# EAGLE library part CA56-11EWA (library kirks-parts)
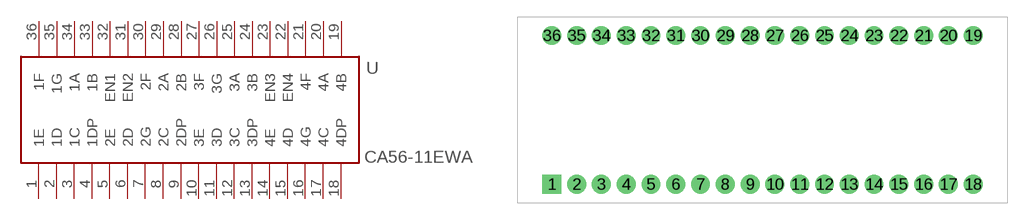
[diagram p0: symbol with the pads of DIP-36-LED-7SEG; footprint DIP-36-LED-7SEG]

Designator prefix -

## CA56-11EWACA56-11EWA  [DIP-36-LED-7SEG]
1  1E
2  1D
3  1C
4  1DP
5  2E
6  2D
7  2G
8  2C
9  2DP
10  3E
11  3D
12  3C
13  3DP
14  4E
15  4D
16  4G
17  4C
18  4DP
19  4B
20  4A
21  4F
22  EN4
23  EN3
24  3B
25  3A
26  3G
27  3F
28  2B
29  2A
30  2F
31  EN2
32  EN1
33  1B
34  1A
35  1G
36  1F

## Footprint DIP-36-LED-7SEG (pad centres in mm)
drill 0.9 pad 1.93 square: 1 -17.78,-8.89
drill 0.9 pad 1.93: 2 -15.24,-8.89; 3 -12.7,-8.89; 4 -10.16,-8.89; 5 -7.62,-8.89; 6 -5.08,-8.89; 7 -2.54,-8.89; 8 0,-8.89; 9 2.54,-8.89; 10 5.08,-8.89; 11 7.62,-8.89; 12 10.16,-8.89; 13 12.7,-8.89; 14 15.24,-8.89; 15 17.78,-8.89; 16 20.32,-8.89; 17 22.86,-8.89; 18 25.4,-8.89; 19 25.4,6.35; 20 22.86,6.35; 21 20.32,6.35; 22 17.78,6.35; 23 15.24,6.35; 24 12.7,6.35; 25 10.16,6.35; 26 7.62,6.35; 27 5.08,6.35; 28 2.54,6.35; 29 0,6.35; 30 -2.54,6.35; 31 -5.08,6.35; 32 -7.62,6.35; 33 -10.16,6.35; 34 -12.7,6.35; 35 -15.24,6.35; 36 -17.78,6.35